# Altium footprint library 56 RESISTORS_THD_AX14_8mm_P.PcbLib: 9 footprints
Each footprint in its own frame and in the unit in brackets; x right, y up, seen from the top. Pads: shape width x height; smd on the part's side, far side on the other; paste and mask are expansions set on the pad; w line width, h text height; cw(c..) or ccw(c..) is an arc to the next point about the centre after c.
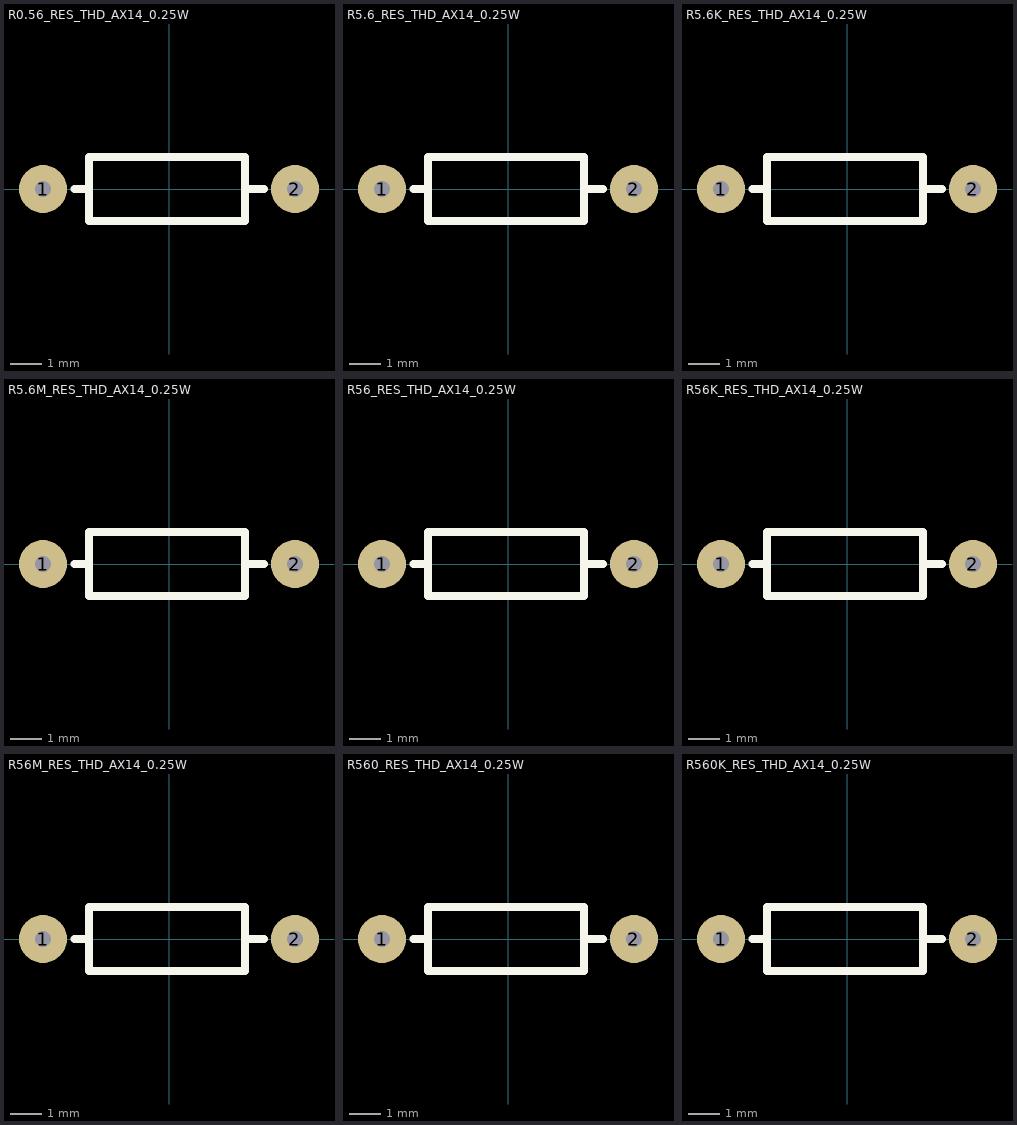
[diagram p0: the footprints below, top view; thin cyan lines are the x and y axes]

## R0.56_RES_THD_AX14_0.25W [mil] "RESISTOR 0.56 Ohm  THD AX14 0.25W Length  8mm"
pads (2):
  round 60 hole 19.68: 1(-157.48,0) 2(157.48,0)
Top Overlay:
  lines w10: -118.28,0 -100.6,0 ; 95,0 118.49,0 ; -100,-40 95,-40 95,40 -100,40 -100,-40
3D body "RES_THD_ASR_ASRM_0.56.STEP": height 96.5, standoff -96.46, extent -167.32,-45.33 167.32,45.33

## R5.6_RES_THD_AX14_0.25W [mil] "RESISTOR 5.6 Ohm  THD AX14 0.25W Length  8mm"
pads (2):
  round 60 hole 19.68: 1(-157.48,0) 2(157.48,0)
Top Overlay:
  lines w10: -118.28,0 -100.6,0 ; 95,0 118.49,0 ; -100,-40 95,-40 95,40 -100,40 -100,-40
3D body "RES_THD_ASR_ASRM_5.6.STEP": height 96.5, standoff -96.46, extent -167.32,-45.33 167.32,45.33

## R5.6K_RES_THD_AX14_0.25W [mil] "RESISTOR 5.6K Ohm  THD AX14 0.25W Length  8mm"
pads (2):
  round 60 hole 19.68: 1(-157.48,0) 2(157.48,0)
Top Overlay:
  lines w10: -118.28,0 -100.6,0 ; 95,0 118.49,0 ; -100,-40 -100,40 95,40 95,-40 -100,-40
3D body "RES_THD_ASR_ASRM_5.6K.STEP": height 96.5, standoff -96.46, extent -167.32,-45.33 167.32,45.33

## R5.6M_RES_THD_AX14_0.25W [mil] "RESISTOR 5.6M Ohm  THD AX14 0.25W Length  8mm"
pads (2):
  round 60 hole 19.68: 1(-157.48,0) 2(157.48,0)
Top Overlay:
  lines w10: -118.28,0 -100.6,0 ; 95,0 118.49,0 ; -100,-40 95,-40 95,40 -100,40 -100,-40
3D body "RES_THD_ASR_ASRM_5.6M.STEP": height 96.5, standoff -96.46, extent -167.32,-45.33 167.32,45.33

## R56_RES_THD_AX14_0.25W [mil] "RESISTOR 56 Ohm  THD AX14 0.25W Length  8mm"
pads (2):
  round 60 hole 19.68: 1(-157.48,0) 2(157.48,0)
Top Overlay:
  lines w10: -118.28,0 -100.6,0 ; 95,0 118.49,0 ; -100,-40 95,-40 95,40 -100,40 -100,-40
3D body "RES_THD_ASR_ASRM_56.STEP": height 96.5, standoff -96.46, extent -167.32,-45.33 167.32,45.33

## R56K_RES_THD_AX14_0.25W [mil] "RESISTOR 56K Ohm  THD AX14 0.25W Length  8mm"
pads (2):
  round 60 hole 19.68: 1(-157.48,0) 2(157.48,0)
Top Overlay:
  lines w10: -118.28,0 -100.6,0 ; 95,0 118.49,0 ; -100,-40 95,-40 95,40 -100,40 -100,-40
3D body "RES_THD_ASR_ASRM_56K.STEP": height 96.5, standoff -96.46, extent -167.32,-45.33 167.32,45.33

## R56M_RES_THD_AX14_0.25W [mil] "RESISTOR 56M Ohm  THD AX14 0.25W Length  8mm"
pads (2):
  round 60 hole 19.68: 1(-157.48,0) 2(157.48,0)
Top Overlay:
  lines w10: -118.28,0 -100.6,0 ; 95,0 118.49,0 ; -100,-40 -100,40 95,40 95,-40 -100,-40
3D body "RES_THD_ASR_ASRM_56M.STEP": height 96.5, standoff -96.46, extent -167.32,-45.33 167.32,45.33

## R560_RES_THD_AX14_0.25W [mil] "RESISTOR 560 Ohm  THD AX14 0.25W Length  8mm"
pads (2):
  round 60 hole 19.68: 1(-157.48,0) 2(157.48,0)
Top Overlay:
  lines w10: -118.28,0 -100.6,0 ; 95,0 118.49,0 ; -100,-40 95,-40 95,40 -100,40 -100,-40
3D body "RES_THD_ASR_ASRM_560.STEP": height 96.5, standoff -96.46, extent -167.32,-45.33 167.32,45.33

## R560K_RES_THD_AX14_0.25W [mil] "RESISTOR 560K Ohm  THD AX14 0.25W Length  8mm"
pads (2):
  round 60 hole 19.68: 1(-157.48,0) 2(157.48,0)
Top Overlay:
  lines w10: -118.28,0 -100.6,0 ; 95,0 118.49,0 ; -100,-40 -100,40 95,40 95,-40 -100,-40
3D body "RES_THD_ASR_ASRM_560K.STEP": height 96.5, standoff -96.46, extent -167.32,-45.33 167.32,45.33